# Altium footprint library Wurth_Elektronik_Passive_rev16a.PCBLIB: 810 footprints (part 27 of 51)
Each footprint in its own frame and in the unit in brackets; x right, y up, seen from the top. Pads: shape width x height; smd on the part's side, far side on the other; paste and mask are expansions set on the pad; w line width, h text height; cw(c..) or ccw(c..) is an arc to the next point about the centre after c.
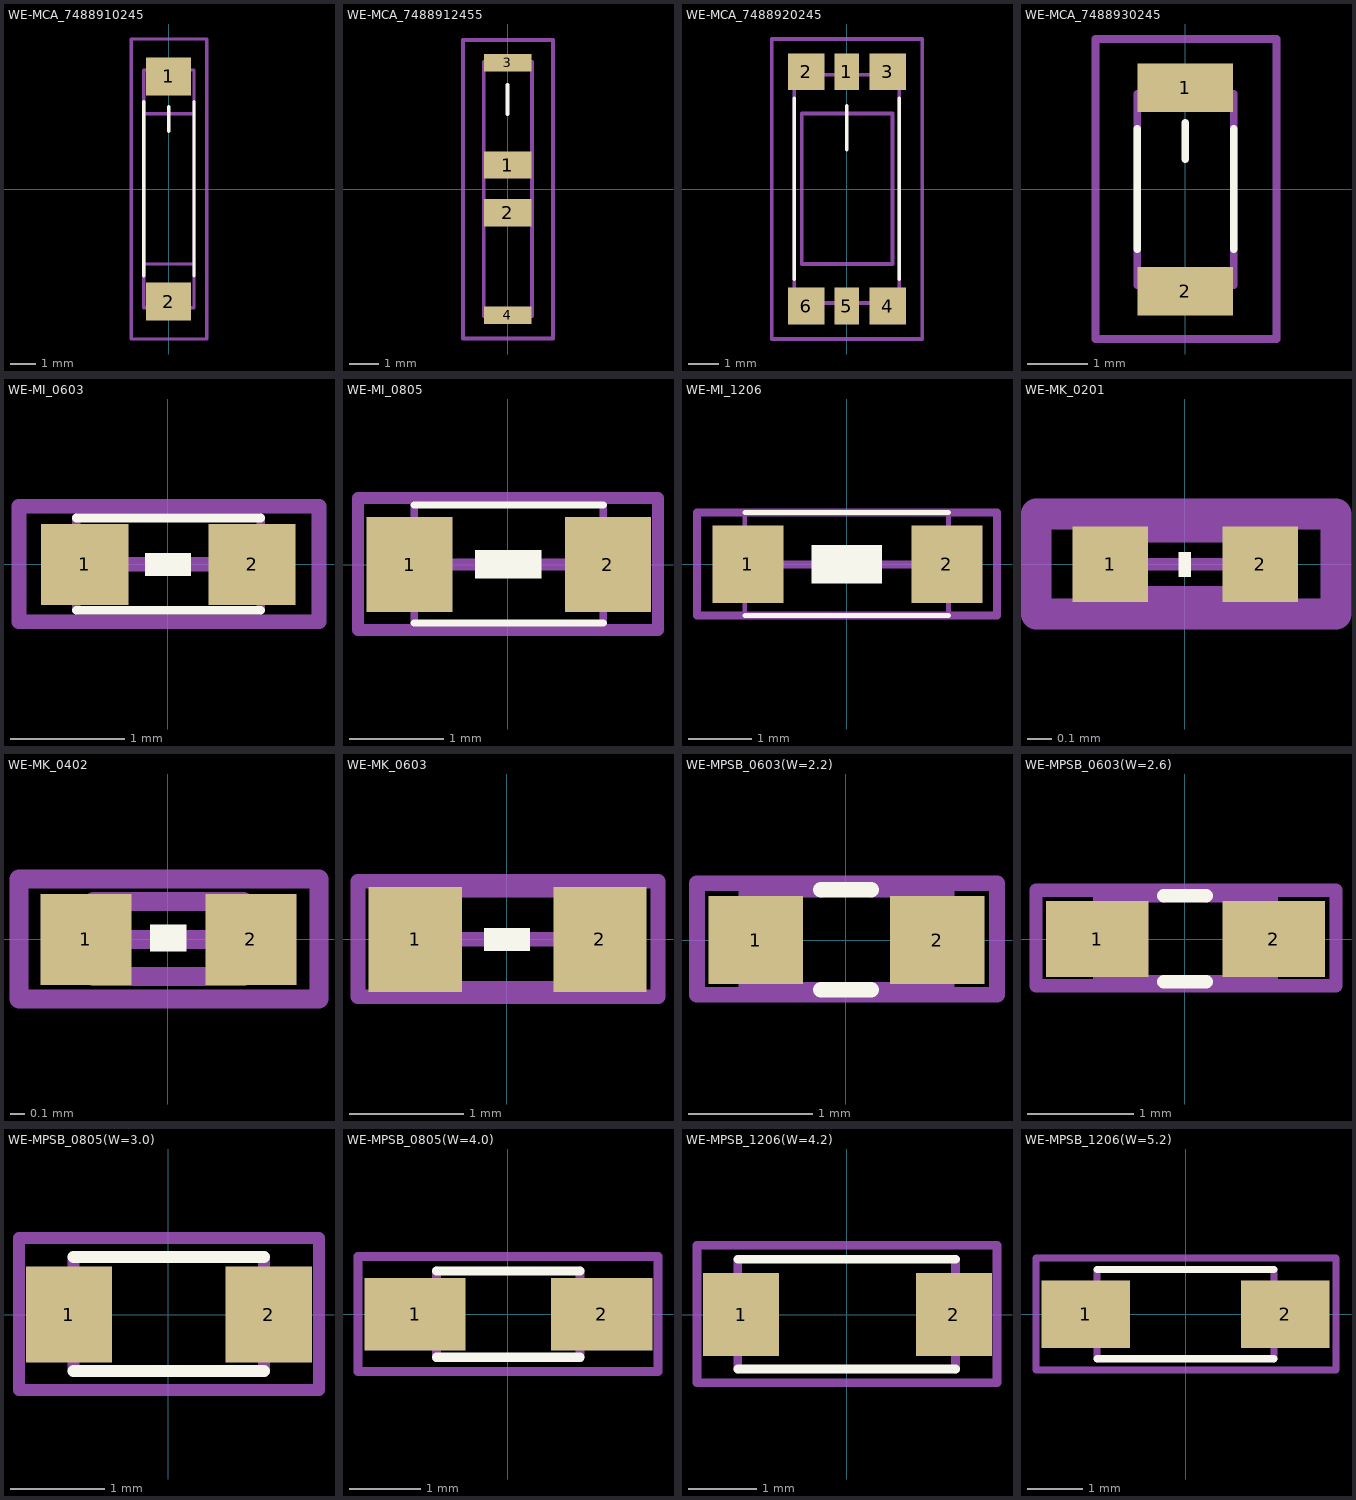
[diagram p26: the footprints below, top view; thin cyan lines are the x and y axes]

## WE-MCA_7488910245 [mil]
pads (2):
  rect 71x60 smd: 1(0,178) 2(0,-177.17)
Top Overlay:
  lines w5: -39.37,-137.01 -39.37,138 ; 0,91 0,130 ; 40,-137.01 40,138
Mechanical 2:
  text ">NAME" at -98.43,-157.48 h77.5
Mechanical 4:
  text ">VALUE" at 119,-157.48 h77.5
Mechanical 10:
  lines w5: -39.37,-118.11 -39.37,119 40,119 40,-118.11 -39.37,-118.11
Mechanical 16:
  lines w5: -39.37,-187.01 40,-187.01 40,188 -39.37,188 -39.37,-187.01
Mechanical 27:
  lines w5: -59.06,-236.22 -59.06,237 60,237 60,-236.22 -59.06,-236.22

## WE-MCA_7488912455 [mil]
pads (4):
  rect 63x36 smd: 1(0,32) 2(0,-31.1)
  rect 63x23 smd: 3(0,167) 4(0,-166.14)
Top Overlay:
  lines w5: 0,99 0,138
Mechanical 2:
  text ">NAME" at -74.8,-133.86 h77.5
Mechanical 4:
  text ">VALUE" at 123,-161.42 h77.5
Mechanical 16:
  lines w5: -31.5,-167.32 -31.5,168 32,168 32,-167.32 -31.5,-167.32
Mechanical 27:
  lines w5: -59.06,-196.85 -59.06,197 60,197 60,-196.85 -59.06,-196.85

## WE-MCA_7488920245 [mil]
pads (6):
  rect 32x48 smd: 1(0,154) 5(0,-153.54)
  rect 48x48 smd: 2(-53.15,154) 3(54,154) 4(54,-153.54) 6(-53.15,-153.54)
Top Overlay:
  lines w5: -68.9,-118.11 -68.9,119 ; 0,52 0,109 ; 69,-118.11 69,119
Mechanical 2:
  text ">NAME" at -127.95,-120.08 h77.5
Mechanical 4:
  text ">VALUE" at 178,-135.83 h77.5
Mechanical 10:
  lines w5: -59.06,-98.43 -59.06,99 60,99 60,-98.43 -59.06,-98.43
Mechanical 16:
  lines w5: -68.9,-149.61 69,-149.61 69,150 -68.9,150 -68.9,-149.61
Mechanical 27:
  lines w5: -98.43,-196.85 -98.43,197 99,197 99,-196.85 -98.43,-196.85

## WE-MCA_7488930245 [mil]
pads (2):
  rect 63x32 smd: 1(0,67) 2(0,-66.93)
Top Overlay:
  lines w5: -31.5,-39.37 -31.5,40 ; 0,20 0,44 ; 32,-39.37 32,40
Mechanical 2:
  text ">NAME" at -59.06,-106.3 h77.5
Mechanical 4:
  text ">VALUE" at 115,-137.8 h77.5
Mechanical 16:
  lines w5: -31.5,-62.99 -31.5,63 32,63 32,-62.99 -31.5,-62.99
Mechanical 27:
  lines w5: -59.06,-98.43 -59.06,99 60,99 60,-98.43 -59.06,-98.43

## WE-MI_0603 [mil]
pads (2):
  rect 30x28 smd: 1(-28.54,0) 2(29,0)
Top Overlay:
  rectangle: -7.87,-3.94 8,4
  lines w3: -31.5,-15.75 32,-15.75 ; -31.5,16 32,16
Mechanical 2:
  text ">NAME" at -58.56,-39.37 h15.5
Mechanical 4:
  text ">VALUE" at -58.56,25 h15.5
Mechanical 16:
  lines w3: -31.5,-15.75 -31.5,16 ; 32,-15.75 32,16
  lines w5: -31.5,0 32,0
Mechanical 27:
  lines w5: -51.18,-19.68 52,-19.68 52,20 -51.18,20 -51.18,-19.68

## WE-MI_0805 [mil]
pads (2):
  rect 36x40 smd: 1(-41.34,0) 2(42,0)
Top Overlay:
  rectangle: -13.78,-5.91 14,6
  lines w3: -39.37,-24.61 40,-24.61 ; -39.37,25 40,25
Mechanical 2:
  text ">NAME" at -75,-51.87 h15.5
Mechanical 4:
  text ">VALUE" at -75,38 h15.5
Mechanical 16:
  lines w3: -39.37,-24.61 -39.37,0 -39.37,25 ; 40,-24.61 40,0 40,25
  lines w5: -39.37,0 40,0
Mechanical 27:
  lines w5: -62.99,-27.56 63,-27.56 63,28 -62.99,28 -62.99,-27.56

## WE-MI_1206 [mil]
pads (2):
  rect 44x48 smd: 1(-61.02,0) 2(62,0)
Top Overlay:
  rectangle: -21.65,-11.81 22,12
  lines w3: -62.99,-31.5 63,-31.5 ; -62.99,32 63,32
Mechanical 2:
  text ">NAME" at -109.84,-51.87 h18.6
Mechanical 4:
  text ">VALUE" at -109.84,38 h18.6
Mechanical 16:
  lines w3: -62.99,-31.5 -62.99,0 -62.99,32 ; 63,-31.5 63,0 63,32
  lines w5: -62.99,0 63,0
Mechanical 27:
  lines w5: -92.52,-31.5 93,-31.5 93,32 -92.52,32 -92.52,-31.5

## WE-MK_0201 [mil]
pads (2):
  rect 12x12 smd: 1(-11.81,0) 2(12,0)
Top Overlay:
  rectangle: -0.98,-1.97 1,2
Mechanical 2:
  text ">NAME" at -60,-45 h37.2
Mechanical 4:
  text ">VALUE" at -60,23 h37.2
Mechanical 16:
  lines w2: -13.78,0 14,0
  lines w5: -11.81,-5.91 12,-5.91 12,6 -11.81,6 -11.81,-5.91
Mechanical 27:
  lines w5: -23.62,-7.87 24,-7.87 24,8 -23.62,8 -23.62,-7.87

## WE-MK_0402 [mil]
pads (2):
  rect 24x24 smd: 1(-21.65,0) 2(22,0)
Top Overlay:
  rectangle: -4.72,-3.15 5,4
Mechanical 2:
  text ">NAME" at -39.37,44 h37.2
Mechanical 4:
  text ">VALUE" at -39.37,-59.06 h37.2
Mechanical 16:
  lines w5: -19.68,0 20,0 ; -19.68,0 -19.68,-9.84 20,-9.84 20,0 ; -19.68,0 -19.68,10 20,10 20,0
Mechanical 27:
  lines w5: -39.37,-15.75 40,-15.75 40,16 -39.37,16 -39.37,-15.75

## WE-MK_0603 [mil]
pads (2):
  rect 32x36 smd: 1(-31.5,0) 2(32,0)
Top Overlay:
  rectangle: -7.87,-3.94 8,4
Mechanical 2:
  text ">NAME" at -58.56,-89.37 h77.5
Mechanical 4:
  text ">VALUE" at -58.56,25 h77.5
Mechanical 16:
  lines w3: -31.5,-15.75 32,-15.75 32,16 -31.5,16 -31.5,-15.75
  lines w5: -31.5,0 32,0
Mechanical 27:
  lines w5: -51.18,-19.68 52,-19.68 52,20 -51.18,20 -51.18,-19.68

## WE-MPSB_0603(W=2.2) [mil]
pads (2):
  rect 30x28 smd: 1(-28.54,0) 2(29,0)
Top Overlay:
  lines w5: -7.87,-15.75 8,-15.75 ; -7.87,16 8,16
Mechanical 2:
  text ">NAME" at -50,27 h15.5
Mechanical 4:
  text ">VALUE" at -50,-50 h15.5
Mechanical 16:
  lines w5: -7.87,-15.75 -31.5,-15.75 -31.5,16 -7.87,16 ; 8,-15.75 32,-15.75 32,16 8,16
Mechanical 27:
  lines w5: -47.24,-17.32 48,-17.32 48,18 -47.24,18 -47.24,-17.32

## WE-MPSB_0603(W=2.6) [mil]
pads (2):
  rect 38x28 smd: 1(-32.48,0) 2(33,0)
Top Overlay:
  lines w5: -7.87,-15.75 8,-15.75 ; -7.87,16 8,16
Mechanical 2:
  text ">NAME" at -61.81,27 h15.5
Mechanical 4:
  text ">VALUE" at -61.81,-38.19 h15.5
Mechanical 16:
  lines w5: -7.87,-15.75 -31.5,-15.75 -31.5,16 -7.87,16 ; 8,-15.75 32,-15.75 32,16 8,16
Mechanical 27:
  lines w5: -55.12,-17.32 -55.12,18 56,18 56,-17.32 -55.12,-17.32

## WE-MPSB_0805(W=3.0) [mil]
pads (2):
  rect 36x40 smd: 1(-41.34,0) 2(42,0)
Top Overlay:
  lines w5: -39.37,-23.62 40,-23.62 ; -39.37,24 40,24
Mechanical 2:
  text ">NAME" at -61.81,43 h15.5
Mechanical 4:
  text ">VALUE" at -57.87,-50 h15.5
Mechanical 16:
  lines w5: -39.37,-23.62 -39.37,24 ; 40,-23.62 40,24
Mechanical 27:
  lines w5: -62.2,-31.5 -62.2,32 63,32 63,-31.5 -62.2,-31.5

## WE-MPSB_0805(W=4.0) [mil]
pads (2):
  rect 56x40 smd: 1(-51.18,0) 2(52,0)
Top Overlay:
  lines w5: -39.37,-23.62 40,-23.62 ; -39.37,24 40,24
Mechanical 2:
  text ">NAME" at -50,50 h15.5
Mechanical 4:
  text ">VALUE" at -50,-50 h15.5
Mechanical 16:
  lines w5: -39.37,-23.62 -39.37,24 ; 40,-23.62 40,24
Mechanical 27:
  lines w5: -82.68,-31.5 -82.68,32 83,32 83,-31.5 -82.68,-31.5

## WE-MPSB_1206(W=4.2) [mil]
pads (2):
  rect 44x48 smd: 1(-61.02,0) 2(62,0)
Top Overlay:
  lines w5: -62.99,-31.5 63,-31.5 ; -62.99,32 63,32
Mechanical 2:
  text ">NAME" at -50,50 h15.5
Mechanical 4:
  text ">VALUE" at -46.06,-53.94 h15.5
Mechanical 16:
  lines w5: -62.99,-31.5 -62.99,32 ; 63,-31.5 63,32
Mechanical 27:
  lines w5: -86.61,-39.37 -86.61,40 87,40 87,-39.37 -86.61,-39.37

## WE-MPSB_1206(W=5.2) [mil]
pads (2):
  rect 63x48 smd: 1(-70.87,0) 2(71,0)
Top Overlay:
  lines w5: -62.99,-31.5 63,-31.5 ; -62.99,32 63,32
Mechanical 2:
  text ">NAME" at -50,50 h15.5
Mechanical 4:
  text ">VALUE" at -50,-53.94 h15.5
Mechanical 16:
  lines w5: -62.99,-31.5 -62.99,32 ; 63,-31.5 63,32
Mechanical 27:
  lines w5: -106.3,-39.37 -106.3,40 107,40 107,-39.37 -106.3,-39.37